# EAGLE library part ADUM240D (library MDT_IC)
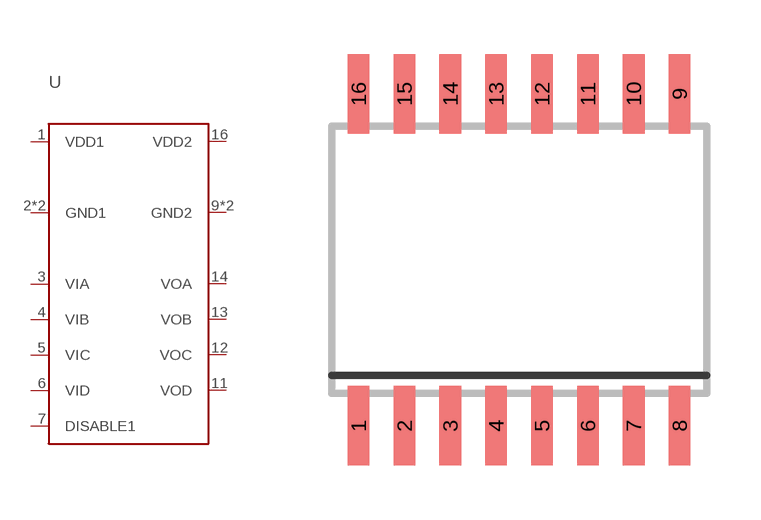
[diagram p0: symbol with the pads of SO-16W; footprint SO-16W]

Designator prefix U

## ADUM240DSO-16W, ADUM240DADUM240DSO-16W (DESCRIPTION: DGTL ISO 5000VRMS 4CH GP 16SOIC; DEVICE: ADuM240D0; PACKAGE: SO-16W; PARTNO: ADuM240D0BRWZ; VENDOR: Analog Devices)  [SO-16W]
1  VDD1  pwr
2  GND1  pwr
3  VIA  in
4  VIB  in
5  VIC  in
6  VID  in
7  DISABLE1  in
8  GND1  pwr
9  GND2  pwr
11  VOD  out
12  VOC  out
13  VOB  out
14  VOA  out
15  GND2  pwr
16  VDD2  pwr

## Footprint SO-16W (pad centres in mm)
16-Lead (Wide Body) Small Outline Package (R-16) Source: http://www.analog.com/UploadedFiles/Data_Sheets/409317160AD421_c.pdf
smd 0.6 x 2.2: 1 -4.445,-4.6; 2 -3.175,-4.6; 3 -1.905,-4.6; 4 -0.635,-4.6; 5 0.635,-4.6; 6 1.905,-4.6; 7 3.175,-4.6; 8 4.445,-4.6; 9 4.445,4.6; 10 3.175,4.6; 11 1.905,4.6; 12 0.635,4.6; 13 -0.635,4.6; 14 -1.905,4.6; 15 -3.175,4.6; 16 -4.445,4.6